# EAGLE library part TPS6107* (library bschulz)
TPS6217x - Efficient Synchronous Boost Converter Characteristics: Vin: 0.9V ~ 5.5V Vout: < 5.5V Output Current: 600 mA IQ: 19 μA Operating Temperature: -40°C to 85°C Digikey: TPS61070 (Power Save, Adj) <https://www.digikey.com/product-detail/en/texas-instruments/TPS61070DDCR/296-17151-1-ND/665930>
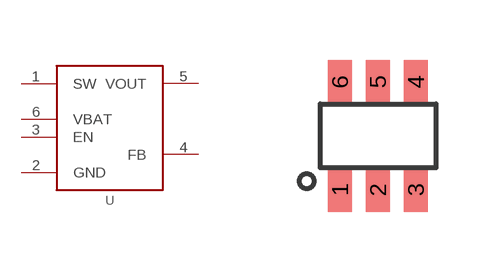
[diagram p92: symbol with the pads of DDC_R-PDSO-G6; footprint DDC_R-PDSO-G6]

Designator prefix U

## TPS6107DDC, TPS61070DDC (DIGIKEY: 296-17151-1-ND; DISP: TPS61070; MF: TI; MPN: TPS61070DDCR)  [DDC_R-PDSO-G6]
1  SW  in
2  GND  pwr
3  EN  in
4  FB  in
5  VOUT  pwr
6  VBAT  pwr

## Footprint DDC_R-PDSO-G6 (pad centres in mm)
smd 0.6 x 1.1: 1 -0.95,-1.35; 2 0,-1.35; 3 0.95,-1.35; 4 0.95,1.35; 5 0,1.35; 6 -0.95,1.35